# Altium footprint library 创新实验室51开发板.PcbLib: 26 footprints (part 1 of 2)
Each footprint in its own frame and in the unit in brackets; x right, y up, seen from the top. Pads: shape width x height; smd on the part's side, far side on the other; paste and mask are expansions set on the pad; w line width, h text height; cw(c..) or ccw(c..) is an arc to the next point about the centre after c.
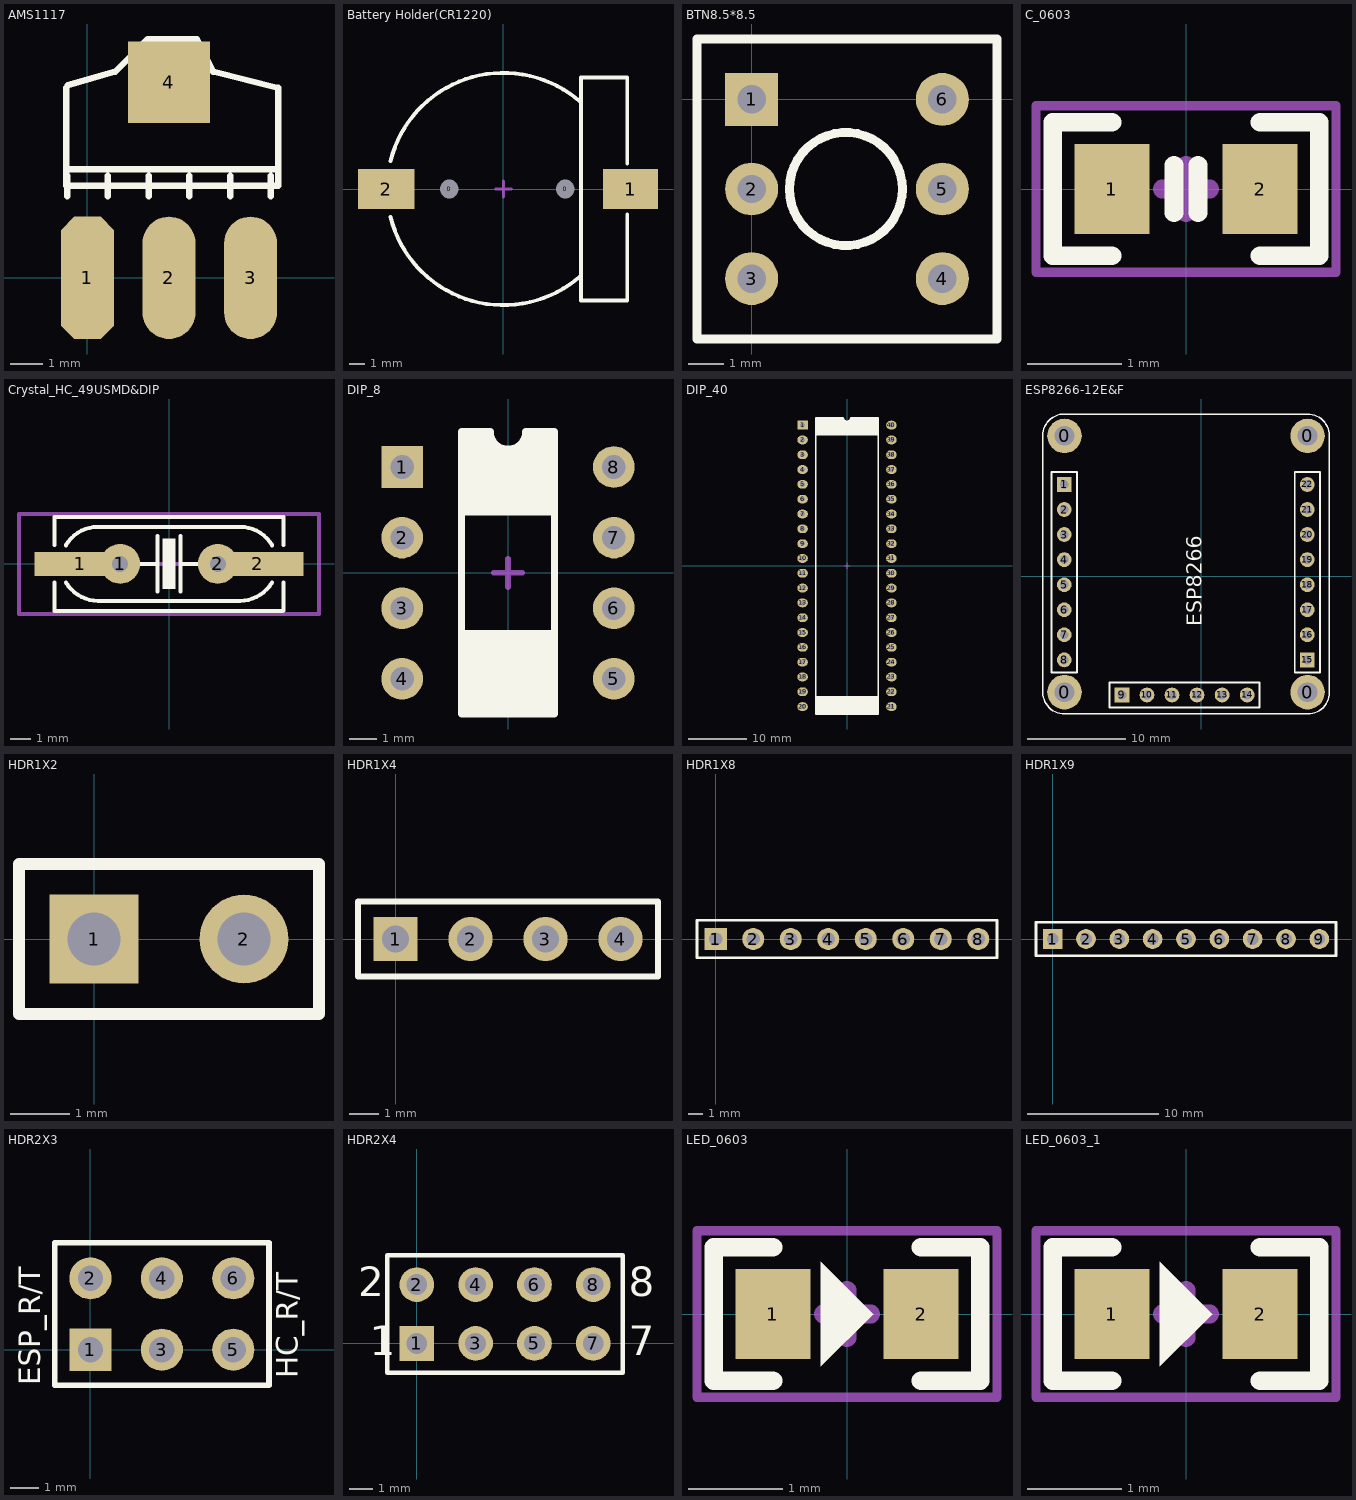
[diagram p0: the footprints below, top view; thin cyan lines are the x and y axes]

## AMS1117 [mil]
height 159.84
pads (4):
  oct 65x150 smd: 1(0.03,-0.06)
  oval 65x150 smd: 2(100.03,-0.06) 3(200.03,-0.06)
  rect 100x100 smd: 4(100.03,239.94)
Top Overlay:
  lines w7.87: -25.97,232.94 -25.97,132.94 ; -24.97,99.94 -24.97,124.94 ; -24.3,236.27 34.03,252.94 74.03,292.94 134.03,292.94 154.03,252.94 234.03,232.94 234.03,112.94 ; 25.03,99.94 25.03,124.94 ; 75.03,99.94 75.03,124.94 ; 125.03,99.94 125.03,124.94 ; 175.03,99.94 175.03,124.94 ; 225.03,99.94 225.03,124.94 ; -25.97,132.94 234.03,132.94 234.03,112.94 ; -25.97,132.94 -25.97,112.94 234.03,112.94

## Battery Holder(CR1220) [mm]
pads (4):
  round 0.5 hole 1.2: 0(-3.5,0) 0(4,0)
  rect 3.54x2.6 smd: 1(8.212,0)
  rect 3.66x2.6 smd: 2(-7.552,0)
Top Overlay:
  lines w0.25: -7.279,-1.806 ccw(c0,0) 4.988,-5.6 ; -7.279,1.806 cw(c0,0) 4.988,5.6 ; 8,-1.65 8,-7.2 5,-7.2 5,7.2 8,7.2 8,1.65
Mechanical 15:
  lines w0.2: -0.508,0 0.508,0 ; 0,-0.508 0,0.508

## BTN8.5*8.5 [mm]
height 4.06
pads (6):
  rect 1.5x1.5 hole 0.8: 1(0,0)
  round 1.5 hole 0.8: 2(0,-2.54) 3(0,-5.08) 4(5.4,-5.08) 5(5.4,-2.54) 6(5.4,0)
Top Overlay:
  circle w0.254: c2.667,-2.54 r1.6
  lines w0.254: -1.55,-6.79 6.95,-6.79 6.95,1.71 -1.55,1.71 -1.55,-6.79

## C_0603 [mm]
height 4.06
pads (2):
  rect 0.8x0.96 smd: 1(-0.79,0) 2(0.79,0)
Top Overlay:
  lines w0.2: -0.79,-0.711 -1.422,-0.711 -1.422,0.711 -0.79,0.711 ; -0.127,-0.254 -0.127,0.254 ; 0.127,-0.254 0.127,0.254 ; 0.79,-0.711 1.422,-0.711 1.422,0.711 0.79,0.711
Mechanical 15:
  lines w0.1: -1.6,-0.889 1.6,-0.889 1.6,0.889 -1.6,0.889 -1.6,-0.889
  lines w0.2: -0.254,0 0.254,0 ; 0,-0.254 0,0.254
3D body "C_0603.STEP": height 0.9, standoff -0.01, extent -0.762,-0.391 0.762,0.391

## Crystal_HC_49USMD&DIP [mm]
height 4.06
pads (4):
  rect 4.6x1.2 smd: 1(-4.428,0) 2(4.428,0)
  round 2 hole 0.8: 1(-2.44,0) 2(2.44,0)
Top Overlay:
  rectangle: -0.33,-1.27 0.33,1.27
  lines w0.2: -5.72,-2.36 5.68,-2.36 ; -5.72,-2.34 -5.72,-0.94 ; -5.72,0.94 -5.72,2.34 5.68,2.34 ; -5.152,-0.925 ccw(c-3.55,0) -3.55,-1.85 3.55,-1.85 ccw(c3.55,0) 5.152,-0.925 ; -5.152,0.925 cw(c-3.55,0) -3.55,1.85 3.55,1.85 cw(c3.55,0) 5.152,0.925 ; -1.753,0 -0.584,0 ; -0.584,-1.397 -0.584,1.397 ; 0.584,-1.397 0.584,1.397 ; 0.584,0 1.753,0 ; 5.72,-2.34 5.72,-0.94 ; 5.72,0.94 5.72,2.34
Mechanical 15:
  lines w0.2: -0.508,0 0.508,0 ; 0,-0.508 0,0.508 ; -7.5,-2.51 -7.5,2.49 7.5,2.49 7.5,-2.51 -7.5,-2.51
3D body "CRYSTAl HC_49USMD.STEP": height 2.81, standoff 0.01, extent -6.1,-2.4 6.1,2.4

## DIP_8 [mm]
pads (8):
  rect 1.5x1.5 hole 0.85: 1(-3.81,3.81)
  round 1.5 hole 0.85: 2(-3.81,1.27) 3(-3.81,-1.27) 4(-3.81,-3.81) 5(3.81,-3.81) 6(3.81,-1.27) 7(3.81,1.27) 8(3.81,3.81)
Top Overlay:
  region: -1.671,-5.078 -1.671,-2.057 1.676,-2.057 1.676,-5.078
  region: -1.671,5.082 -1.676,5.077 -1.676,2.083 1.671,2.083 1.671,5.082 0.635,5.082 0.635,5.08 0.623,4.956 0.528,4.727 0.353,4.552 0.124,4.457 0,4.445 -0.124,4.457 -0.353,4.552 -0.528,4.727 -0.623,4.956 -0.635,5.08 -0.635,5.082
  lines w0.254: -1.671,-5.078 -1.671,5.082 -0.635,5.082 ccw(c0,5.082) 0.635,5.082 1.671,5.082 1.671,-5.078 -1.671,-5.078
Mechanical 15:
  lines w0.2: -0.508,0 0.508,0 ; 0,-0.508 0,0.508
3D body "DIP_8.STEP": height 4.46, standoff -3.4, extent -3.963,-5.08 3.962,5.08

## DIP_40 [mm]
pads (40):
  rect 1.8x1.5 hole 0.85: 1(-7.62,24.13)
  oval 1.8x1.5 hole 0.85: 2(-7.62,21.59) 3(-7.62,19.05) 4(-7.62,16.51) 5(-7.62,13.97) 6(-7.62,11.43) 7(-7.62,8.89) 8(-7.62,6.35) 9(-7.62,3.81) 10(-7.62,1.27) 11(-7.62,-1.27) 12(-7.62,-3.81) 13(-7.62,-6.35) 14(-7.62,-8.89) 15(-7.62,-11.43) 16(-7.62,-13.97) 17(-7.62,-16.51) 18(-7.62,-19.05) 19(-7.62,-21.59) 20(-7.62,-24.13) 21(7.62,-24.13) 22(7.62,-21.59) 23(7.62,-19.05) 24(7.62,-16.51) 25(7.62,-13.97) 26(7.62,-11.43) 27(7.62,-8.89) 28(7.62,-6.35) 29(7.62,-3.81) 30(7.62,-1.27) 31(7.62,1.27) 32(7.62,3.81) 33(7.62,6.35) 34(7.62,8.89) 35(7.62,11.43) 36(7.62,13.97) 37(7.62,16.51) 38(7.62,19.05) 39(7.62,21.59) 40(7.62,24.13)
Top Overlay:
  region: -5.365,-25.4 -5.365,-22.377 5.365,-22.377 5.365,-25.4
  region: -5.365,25.4 -5.365,22.377 5.365,22.377 5.365,25.4 0.635,25.4 0.635,25.375 0.623,25.256 0.532,25.036 0.364,24.868 0.144,24.777 0.025,24.765 0,24.765 -0.124,24.777 -0.353,24.872 -0.528,25.047 -0.623,25.276 -0.635,25.4
  lines w0.3: -5.365,-25.4 5.365,-25.4 5.365,25.4 0.635,25.4 cw(c0,25.4) -0.635,25.4 -5.365,25.4 -5.365,-25.4
Mechanical 15:
  lines w0.2: -0.508,0 0.508,0 ; 0,-0.508 0,0.508
3D body "DIP_40.STEP": height 4.7, standoff -3.3, extent -7.747,-26.162 7.747,26.162

## ESP8266-12E&F [mm] "ESP8266-12E&F模组_贴片转直插后封装"
pads (26):
  round 3.5 hole 2 unplated mask+0.102: 0(-13.843,-11.76) 0(-13.843,14.224) 0(10.795,-11.76) 0(10.795,14.224)
  rect 1.5x1.5 hole 0.9: 1(-13.868,9.296) 9(-8.026,-12.04) 15(10.77,-8.484)
  round 1.5 hole 0.9: 2(-13.868,6.756) 3(-13.868,4.216) 4(-13.868,1.676) 5(-13.868,-0.864) 6(-13.868,-3.404) 7(-13.868,-5.944) 8(-13.868,-8.484) 10(-5.486,-12.04) 11(-2.946,-12.04) 12(-0.406,-12.04) 13(2.134,-12.04) 14(4.674,-12.04) 16(10.77,-5.944) 17(10.77,-3.404) 18(10.77,-0.864) 19(10.77,1.676) 20(10.77,4.216) 21(10.77,6.756) 22(10.77,9.296)
Top Overlay:
  lines w0.127: -16.06,14.224 cw(c-13.843,14.224) -14.064,16.43 ; -16.043,-11.76 ccw(c-13.843,-11.76) -13.843,-13.96 10.807,-13.96 ; -16.041,-11.758 -16.041,14.249 ; -14.064,16.436 10.795,16.436 ; 10.566,-13.96 ccw(c10.795,-11.76) 13.007,-11.76 13.007,14.224 ; 10.77,16.437 cw(c10.795,14.224) 13.008,14.224
  lines w0.2: -15.138,-9.754 -12.598,-9.754 -12.598,10.566 -15.138,10.566 -15.138,-9.754 ; -9.296,-13.31 -9.296,-10.77 5.944,-10.77 5.944,-13.31 -9.296,-13.31 ; 9.5,-9.754 12.04,-9.754 12.04,10.566 9.5,10.566 9.5,-9.754
  text "ESP8266" at 0.051,-5.08 h1.52

## HDR1X2 [mm] "Connector; Header; 2 Position"
height 4.06
pads (2):
  rect 1.5x1.5 hole 0.9: 1(0,0)
  round 1.5 hole 0.9: 2(2.54,0)
Top Overlay:
  lines w0.2: -1.27,-1.27 -1.27,1.27 3.81,1.27 3.81,-1.27 -1.27,-1.27

## HDR1X4 [mm] "Connector; Header; 4 Position"
height 4.06
pads (4):
  rect 1.5x1.5 hole 0.9: 1(0,0)
  round 1.5 hole 0.9: 2(2.54,0) 3(5.08,0) 4(7.62,0)
Top Overlay:
  lines w0.2: -1.27,-1.27 8.89,-1.27 8.89,1.27 -1.27,1.27 -1.27,-1.27

## HDR1X8 [mm] "Connector; Header; 8 Position"
height 4.06
pads (8):
  rect 1.5x1.5 hole 0.9: 1(0,0)
  round 1.5 hole 0.9: 2(2.54,0) 3(5.08,0) 4(7.62,0) 5(10.16,0) 6(12.7,0) 7(15.24,0) 8(17.78,0)
Top Overlay:
  lines w0.2: -1.27,-1.27 -1.27,1.27 19.05,1.27 19.05,-1.27 -1.27,-1.27

## HDR1X9 [mm] "Connector; Header; 9 Position"
height 4.06
pads (9):
  rect 1.5x1.5 hole 0.9: 1(0,0)
  round 1.5 hole 0.9: 2(2.54,0) 3(5.08,0) 4(7.62,0) 5(10.16,0) 6(12.7,0) 7(15.24,0) 8(17.78,0) 9(20.32,0)
Top Overlay:
  lines w0.2: -1.27,-1.27 -1.27,1.27 21.59,1.27 21.59,-1.27 -1.27,-1.27

## HDR2X3 [mm] "Connector; Header; 3x2 Position"
height 4.06
pads (6):
  rect 1.5x1.5 hole 0.9: 1(0,0)
  round 1.5 hole 0.9: 2(0,2.54) 3(2.54,0) 4(2.54,2.54) 5(5.08,0) 6(5.08,2.54)
Top Overlay:
  lines w0.2: 1.482,-1.27 6.35,-1.27 ; 6.35,-1.27 6.35,3.81 -1.27,3.81 -1.27,-1.27 6.35,-1.27
  text "HC_R/T" at 7.366,-1.016 h0.76
  text "ESP_R/T" at -1.778,-1.27 h0.76

## HDR2X4 [mm] "Connector; Header; 4x2 Position"
height 4.06
pads (8):
  rect 1.5x1.5 hole 0.9: 1(0,0)
  round 1.5 hole 0.9: 2(0,2.54) 3(2.54,0) 4(2.54,2.54) 5(5.08,0) 6(5.08,2.54) 7(7.62,0) 8(7.62,2.54)
Top Overlay:
  lines w0.2: -1.27,-1.27 -1.27,3.81 8.89,3.81 8.89,-1.27 -1.27,-1.27
  text "8" at 9.144,2.032 h1.27
  text "7" at 9.144,-0.508 h1.27
  text "1" at -2.032,-0.508 h1.27
  text "2" at -2.54,2.032 h1.27

## LED_0603 [mm]
height 4.06
pads (2):
  rect 0.8x0.96 smd: 1(-0.79,0) 2(0.79,0)
Top Overlay:
  region: -0.279,0.559 -0.279,-0.559 0.279,0
  lines w0.2: -0.79,-0.711 -1.422,-0.711 -1.422,0.711 -0.79,0.711 ; 0.79,-0.711 1.422,-0.711 1.422,0.711 0.79,0.711
Mechanical 15:
  lines w0.1: -1.6,-0.889 -1.6,0.889 1.6,0.889 1.6,-0.889 -1.6,-0.889
  lines w0.2: -0.254,0 0.254,0 ; 0,-0.254 0,0.254

## LED_0603_1 [mm]
height 4.06
pads (2):
  rect 0.8x0.96 smd: 1(-0.79,0) 2(0.79,0)
Top Overlay:
  region: -0.279,0.559 -0.279,-0.559 0.279,0
  lines w0.2: -0.79,-0.711 -1.422,-0.711 -1.422,0.711 -0.79,0.711 ; 0.79,-0.711 1.422,-0.711 1.422,0.711 0.79,0.711
Mechanical 15:
  lines w0.1: -1.6,-0.889 -1.6,0.889 1.6,0.889 1.6,-0.889 -1.6,-0.889
  lines w0.2: -0.254,0 0.254,0 ; 0,-0.254 0,0.254